# Altium schematic symbol library TSV994IPT.SchLib: 1 symbol
Pins are listed as number, name and electrical type; pins without a type are passive.

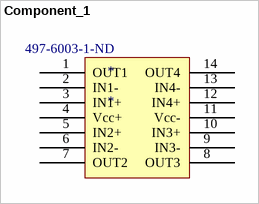
[diagram p0: symbol Component_1]

## Component_1
designator *  Supplier Part Number 1: 497-6003-1-ND
Supplier 1: Digi-Key
footprint TSV994IPT (TSOP, 14-Leads, Body 5.00x4.40mm, Pitch 0.65mm, IPC Medium Density)
pins: 1 OUT1, 2 IN1-, 3 IN1+, 4 Vcc+, 5 IN2+, 6 IN2-, 7 OUT2, 8 OUT3, 9 IN3-, 10 IN3+, 11 Vcc-, 12 IN4+, 13 IN4-, 14 OUT4